# EAGLE library part BTM-11X (library btm-11x)
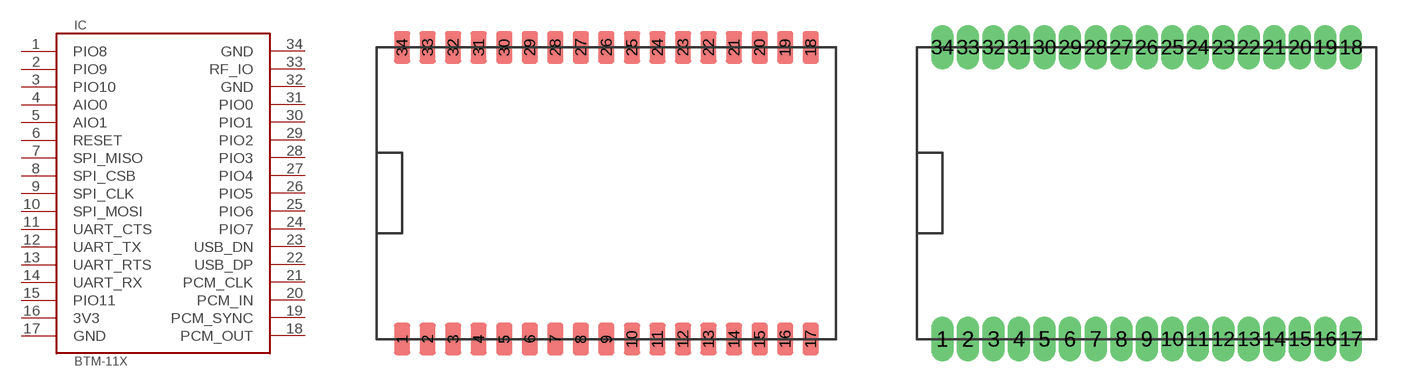
[diagram p0: symbol with the pads of BTM-11X; footprints BTM-11X, BTM-11X-STAMP]

Designator prefix IC

## BTM-11X  [BTM-11X]
1  PIO8
2  PIO9
3  PIO10
4  AIO0
5  AIO1
6  RESET  in
7  SPI_MISO
8  SPI_CSB
9  SPI_CLK
10  SPI_MOSI
11  UART_CTS  in
12  UART_TX  out
13  UART_RTS  out
14  UART_RX  in
15  PIO11
16  3V3  pwr
17  GND  pwr
18  PCM_OUT  out
19  PCM_SYNC
20  PCM_IN  in
21  PCM_CLK
22  USB_DP
23  USB_DN
24  PIO7
25  PIO6
26  PIO5
27  PIO4
28  PIO3
29  PIO2
30  PIO1
31  PIO0
32  GND  pwr
33  RF_IO  pas
34  GND  pwr

## BTM-11X-STMP  [BTM-11X-STAMP]
Pads as for BTM-11X

## Footprint BTM-11X (pad centres in mm)
smd 0.8 x 1.6: 1 -10.16,-7.62; 2 -8.89,-7.62; 3 -7.62,-7.62; 4 -6.35,-7.62; 5 -5.08,-7.62; 6 -3.81,-7.62; 7 -2.54,-7.62; 8 -1.27,-7.62; 9 0,-7.62; 10 1.27,-7.62; 11 2.54,-7.62; 12 3.81,-7.62; 13 5.08,-7.62; 14 6.35,-7.62; 15 7.62,-7.62; 16 8.89,-7.62; 17 10.16,-7.62; 18 10.16,6.88; 19 8.89,6.88; 20 7.62,6.88; 21 6.35,6.88; 22 5.08,6.88; 23 3.81,6.88; 24 2.54,6.88; 25 1.27,6.88; 26 0,6.88; 27 -1.27,6.88; 28 -2.54,6.88; 29 -3.81,6.88; 30 -5.08,6.88; 31 -6.35,6.88; 32 -7.62,6.88; 33 -8.89,6.88; 34 -10.16,6.88

## Footprint BTM-11X-STAMP (pad centres in mm)
drill 0.6 long: 1 -10.16,-7.62; 2 -8.89,-7.62; 3 -7.62,-7.62; 4 -6.35,-7.62; 5 -5.08,-7.62; 6 -3.81,-7.62; 7 -2.54,-7.62; 8 -1.27,-7.62; 9 0,-7.62; 10 1.27,-7.62; 11 2.54,-7.62; 12 3.81,-7.62; 13 5.08,-7.62; 14 6.35,-7.62; 15 7.62,-7.62; 16 8.89,-7.62; 17 10.16,-7.62; 18 10.16,6.88; 19 8.89,6.88; 20 7.62,6.88; 21 6.35,6.88; 22 5.08,6.88; 23 3.81,6.88; 24 2.54,6.88; 25 1.27,6.88; 26 0,6.88; 27 -1.27,6.88; 28 -2.54,6.88; 29 -3.81,6.88; 30 -5.08,6.88; 31 -6.35,6.88; 32 -7.62,6.88; 33 -8.89,6.88; 34 -10.16,6.88